# EAGLE library part 0900PC15J0013 (library Balun)
TI CC1120 1121 1125 FRONT-END 0900PC15J0013 Datasheet <http://www.johansontechnology.com/datasheets/highly-integrated-passive-components/0900PC15J0013.pdf>
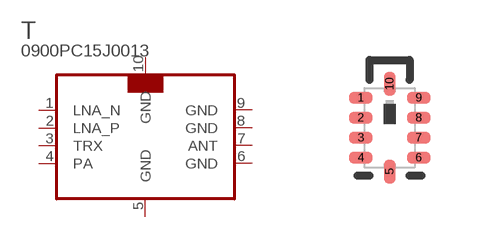
[diagram p2: symbol with the pads of 0805-10PIN; footprint 0805-10PIN]

Designator prefix T

## 0900PC15J0013 (DATASHEET: https://www.johansontechnology.com/datasheets/highly-integrated-passive-components/0900PC15J0013.pdf; DESC: TI CC1120 1121 BALUN FILTER IPC; MANF: Johanson Technology Inc.; MFPN: 0900PC15J0013; PARTNO: 12-100032-00; PRICE: 1.60; STATUS: Active), 0900PC15J0013E (DATASHEET: https://www.johansontechnology.com/datasheets/highly-integrated-passive-components/0900PC15J0013.pdf; DESC: TI CC1120 1121 BALUN FILTER IPC; MANF: Johanson Technology Inc.; MFPN: 0900PC15J0013E; PARTNO: NEW; PRICE: 1.07; STATUS: Active)  [0805-10PIN]
1  LNA_N  pas
2  LNA_P  pas
3  TRX  pas
4  PA  pas
5  GND  pwr
6  GND  pwr
7  ANT  pas
8  GND  pwr
9  GND  pwr
10  GND  pwr

## Footprint 0805-10PIN (pad centres in mm)
0805 10-Pin balun footprint for 0900PC15J0013E
smd 0.6 x 0.3: 1 -0.725,0.75; 2 -0.725,0.25; 3 -0.725,-0.25; 4 -0.725,-0.75; 6 0.725,-0.75; 7 0.725,-0.25; 8 0.725,0.25; 9 0.725,0.75
smd 0.3 x 0.6: 5 0,-1.1; 10 0,1.1